# EAGLE library part FT230 (library FT230)
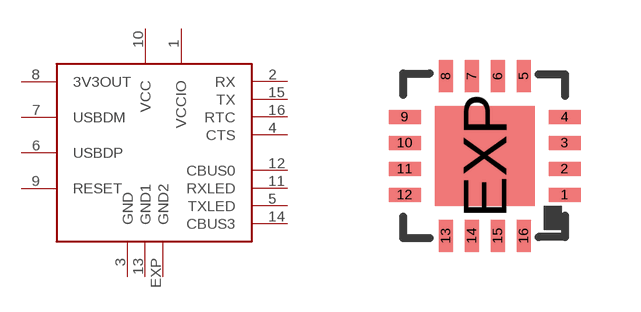
[diagram p0: symbol with the pads of QFN-16; footprint QFN-16]

Designator prefix -

## FT230  [QFN-16]
1  VCCIO
2  RX
3  GND
4  CTS
5  TXLED
6  USBDP
7  USBDM
8  3V3OUT
9  RESET
10  VCC
11  RXLED
12  CBUS0
13  GND1
14  CBUS3
15  TX
16  RTC
EXP  GND2

## Footprint QFN-16 (pad centres in mm)
smd 0.8 x 0.35: 1 1.981,-0.989; 2 1.981,-0.339; 3 1.981,0.311; 4 1.981,0.961; 9 -2.019,0.961; 10 -2.019,0.311; 11 -2.019,-0.339; 12 -2.019,-0.989
smd 0.35 x 0.8: 5 0.956,1.986; 6 0.306,1.986; 7 -0.344,1.986; 8 -0.994,1.986; 13 -0.994,-2.014; 14 -0.344,-2.014; 15 0.306,-2.014; 16 0.956,-2.014
smd 2.5 x 2.5: EXP -0.019,-0.014